# Altium schematic symbol library Wacky_1.SchLib: 12 symbols
Pins are listed as number, name and electrical type; pins without a type are passive.

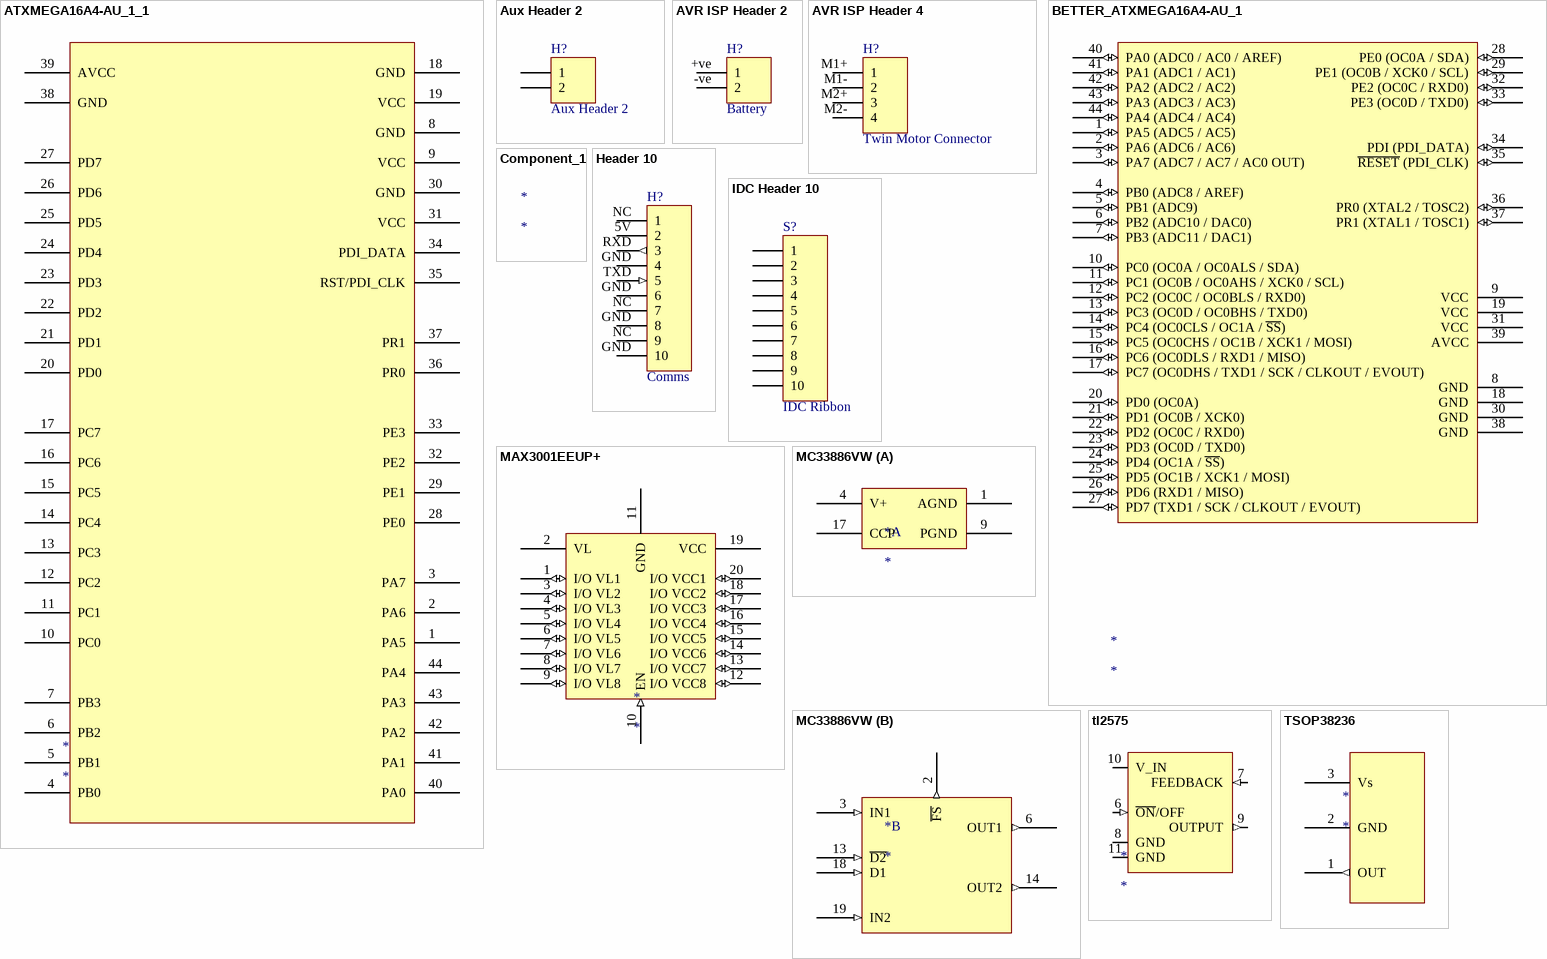
[diagram p0: symbols ATXMEGA16A4-AU_1_1 to TSOP38236]

## ATXMEGA16A4-AU_1_1
designator *
pins: 1 PA5, 2 PA6, 3 PA7, 4 PB0, 5 PB1, 6 PB2, 7 PB3, 8 GND, 9 VCC, 10 PC0, 11 PC1, 12 PC2, 13 PC3, 14 PC4, 15 PC5, 16 PC6, 17 PC7, 18 GND, 19 VCC, 20 PD0, 21 PD1, 22 PD2, 23 PD3, 24 PD4, 25 PD5, 26 PD6, 27 PD7, 28 PE0, 29 PE1, 30 GND, 31 VCC, 32 PE2, 33 PE3, 34 PDI_DATA, 35 RST/PDI_CLK, 36 PR0, 37 PR1, 38 GND, 39 AVCC, 40 PA0, 41 PA1, 42 PA2, 43 PA3, 44 PA4

## Aux Header 2
designator H?
5.08mm Pluggable Terminal Header; LatestRevisionDate: 17-Jul-2002; LatestRevisionNote: Re-released for DXP Platform.; Publisher: Altium Limited
signal-integrity model Connector
footprint TMHDR2 (5.08mm Pluggable Terminal Header)
pins: ?1 1, ?2 2

## AVR ISP Header 2
designator H?, comment Battery
5.08mm Pluggable Terminal Header; LatestRevisionDate: 17-Jul-2002; LatestRevisionNote: Re-released for DXP Platform.; Publisher: Altium Limited
signal-integrity model Connector
footprint TMHDR2 (5.08mm Pluggable Terminal Header)
pins: +ve 1 (power), -ve 2 (power)

## AVR ISP Header 4
designator H?, comment Twin Motor Connector
5.08mm Pluggable Terminal Header; LatestRevisionDate: 17-Jul-2002; LatestRevisionNote: Re-released for DXP Platform.; Publisher: Altium Limited
signal-integrity model Connector
footprint TMHDR4 (5.08mm Pluggable Terminal Header)
pins: M1+ 1, M1- 2, M2+ 3, M2- 4

## BETTER_ATXMEGA16A4-AU_1
designator *
footprint TQFP80P1200X1200X120-44N (TQFP, 44-Leads, Body 12.3x12.3mm (max), Pitch 0.80mm, IPC Medium Density)
pins: 1 PA5 (ADC5 / AC5) (io), 2 PA6 (ADC6 / AC6) (io), 3 PA7 (ADC7 / AC7 / AC0 OUT) (io), 4 PB0 (ADC8 / AREF) (io), 5 PB1 (ADC9) (io), 6 PB2 (ADC10 / DAC0) (io), 7 PB3 (ADC11 / DAC1) (io), 8 GND, 9 VCC, 10 PC0 (OC0A / OC0ALS / SDA) (io), 11 PC1 (OC0B / OC0AHS / XCK0 / SCL) (io), 12 PC2 (OC0C / OC0BLS / RXD0) (io), 13 PC3 (OC0D / OC0BHS / TXD0) (io), 14 PC4 (OC0CLS / OC1A / ~{SS}) (io), 15 PC5 (OC0CHS / OC1B / XCK1 / MOSI) (io), 16 PC6 (OC0DLS / RXD1 / MISO) (io), 17 PC7 (OC0DHS / TXD1 / SCK / CLKOUT / EVOUT) (io), 18 GND, 19 VCC, 20 PD0 (OC0A) (io), 21 PD1 (OC0B / XCK0) (io), 22 PD2 (OC0C / RXD0) (io), 23 PD3 (OC0D / TXD0) (io), 24 PD4 (OC1A / ~{SS}) (io), 25 PD5 (OC1B / XCK1 / MOSI) (io), 26 PD6 (RXD1 / MISO) (io), 27 PD7 (TXD1 / SCK / CLKOUT / EVOUT) (io), 28 PE0 (OC0A / SDA) (io), 29 PE1 (OC0B / XCK0 / SCL) (io), 30 GND, 31 VCC, 32 PE2 (OC0C / RXD0) (io), 33 PE3 (OC0D / TXD0) (io), 34 PDI (PDI_DATA) (io), 35 ~{RESET} (PDI_CLK) (io), 36 PR0 (XTAL2 / TOSC2) (io), 37 PR1 (XTAL1 / TOSC1) (io), 38 GND, 39 AVCC, 40 PA0 (ADC0 / AC0 / AREF) (io), 41 PA1 (ADC1 / AC1) (io), 42 PA2 (ADC2 / AC2) (io), 43 PA3 (ADC3 / AC3) (io), 44 PA4 (ADC4 / AC4) (io)

## Component_1
designator *

## Header 10
designator H?, comment Comms
Header, IDC 10-Pin; LatestRevisionDate: 17-Jul-2002; LatestRevisionNote: Re-released for DXP Platform.; Publisher: Altium Limited
signal-integrity model Connector
footprint 918510x323 (Connector; IDC, Low Profile Male Header, Thru-Hole; 10 Position; Right Angle; Pitch 2.54 mm; Body 20.32 x 8.9 x 9.2 mm (LxWxH))
pins: 5V 2 (power), GND 4 (power), GND 6 (power), GND 8 (power), GND 10 (power), NC 1, NC 7, NC 9, RXD 3 (out), TXD 5 (in)

## IDC Header 10
designator S?, comment IDC Ribbon
IDC Header, 10-Pin; LatestRevisionDate: 17-Jul-2002; LatestRevisionNote: Re-released for DXP Platform.; Publisher: Altium Limited
footprint HDR1X10 (Connector; Header; 10 Position)
signal-integrity model Connector
pins: 1, 2, 3, 4, 5, 6, 7, 8, 9, 10

## MAX3001EEUP+
designator *
footprint TSOP65P640X110-20N (TSOP, 20-Leads, Body 6.6x4.5mm (max), Pitch 0.65mm, IPC Medium Density)
pins: 1 I/O VL1 (io), 2 VL (power), 3 I/O VL2 (io), 4 I/O VL3 (io), 5 I/O VL4 (io), 6 I/O VL5 (io), 7 I/O VL6 (io), 8 I/O VL7 (io), 9 I/O VL8 (io), 10 EN (in), 11 GND, 12 I/O VCC8 (io), 13 I/O VCC7 (io), 14 I/O VCC6 (io), 15 I/O VCC5 (io), 16 I/O VCC4 (io), 17 I/O VCC3 (io), 18 I/O VCC2 (io), 19 VCC (power), 20 I/O VCC1 (io)

## MC33886VW
designator *
footprint SOP127P1420X340_HS-20N (SOP, 20-Leads, Body 16.0x11.1mm (max), Pitch 1.27mm, IPC Medium Density)
part A pins: 1 AGND "Analog Ground", 4 V+ (power) "Positive Power Supply", 5 V+ (power) hidden to 4 "Positive Power Supply", 8 DNC hidden "Do Not Connect", 9 PGND "Power Ground", 10 PGND hidden to 9 "Power Ground", 11 PGND hidden to 9 "Power Ground", 12 PGND hidden to 9 "Power Ground", 16 V+ (power) hidden to 4 "Positive Power Supply", 17 CCP "Charge Pump Capacitor", 20 DNC hidden "Do Not Connect"
part B pins: 2 ~{FS} (out) "Fault Status for H-Bridge", 3 IN1 (in) "Logic Input Control 1", 6 OUT1 (out) "H-Bridge Output 1", 7 OUT1 (out) hidden to 6 "H-Bridge Output 1", 13 ~{D2} (in) "Disable 2", 14 OUT2 (out) "H-Bridge Output 2", 15 OUT2 (out) hidden to 14 "H-Bridge Output 2", 18 D1 (in) "Disable 1", 19 IN2 (in) "Logic Input Control 2"

## tl2575
designator *
pins: 6 ~{ON}/OFF (in), 7 FEEDBACK (in), 8 GND, 9 OUTPUT (out), 10 V_IN, 11 GND

## TSOP38236
designator *
footprint TSOP38236 IR Receiver (Vishay IR Receiver Module)
pins: 1 OUT (out), 2 GND (power), 3 Vs (power)